# EAGLE library part IDC-10 (library con_idc)
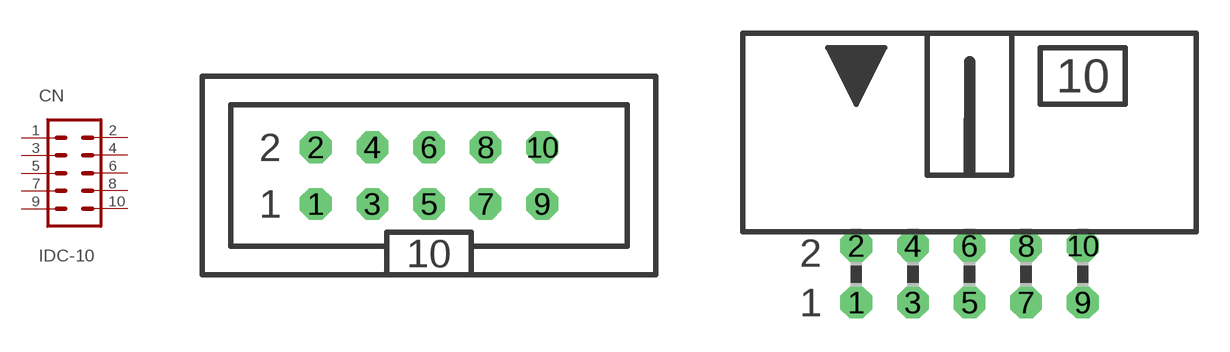
[diagram p0: symbol with the pads of IDCSC-10; footprints IDCSC-10, IDCSN-10]

Designator prefix CN

## IDC-10C  [IDCSC-10]
1  1  pas
2  2  pas
3  3  pas
4  4  pas
5  5  pas
6  6  pas
7  7  pas
8  8  pas
9  9  pas
10  10  pas

## IDC-10N  [IDCSN-10]
Pads as for IDCSC-10

## Footprint IDCSC-10 (pad centres in mm)
drill 0.914 octagon: 1 -5.08,-1.27; 2 -5.08,1.27; 3 -2.54,-1.27; 4 -2.54,1.27; 5 0,-1.27; 6 0,1.27; 7 2.54,-1.27; 8 2.54,1.27; 9 5.08,-1.27; 10 5.08,1.27

## Footprint IDCSN-10 (pad centres in mm)
drill 0.914 octagon: 1 -5.08,-1.27; 2 -5.08,1.27; 3 -2.54,-1.27; 4 -2.54,1.27; 5 0,-1.27; 6 0,1.27; 7 2.54,-1.27; 8 2.54,1.27; 9 5.08,-1.27; 10 5.08,1.27